# Altium footprint library FBGA-94-C.PcbLib: 1 footprints
Each footprint in its own frame and in the unit in brackets; x right, y up, seen from the top. Pads: shape width x height; smd on the part's side, far side on the other; paste and mask are expansions set on the pad; w line width, h text height; cw(c..) or ccw(c..) is an arc to the next point about the centre after c.
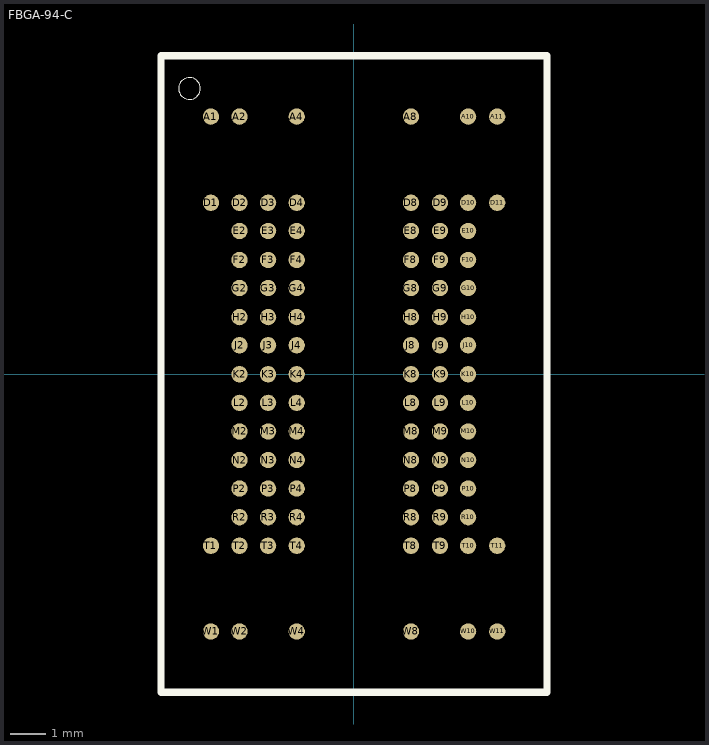
[diagram p0: the footprint, top view; thin cyan lines are the x and y axes]

## FBGA-94-C [mil]
pads (94):
  rrect100% 18x18 smd: A1(-157.48,284) A2(-125.98,284) A4(-62.99,284) A8(63,284) A10(126,284) A11(158,284) D1(-157.48,189) D2(-125.98,189) D3(-94.49,189) D4(-62.99,189) D8(63,189) D9(95,189) D10(126,189) D11(158,189) E2(-125.98,158) E3(-94.49,158) E4(-62.99,158) E8(63,158) E9(95,158) E10(126,158) F2(-125.98,126) F3(-94.49,126) F4(-62.99,126) F8(63,126) F9(95,126) F10(126,126) G2(-125.98,95) G3(-94.49,95) G4(-62.99,95) G8(63,95) G9(95,95) G10(126,95) H2(-125.98,63) H3(-94.49,63) H4(-62.99,63) H8(63,63) H9(95,63) H10(126,63) J2(-125.98,32) J3(-94.49,32) J4(-62.99,32) J8(63,32) J9(95,32) J10(126,32) K2(-125.98,0) K3(-94.49,0) K4(-62.99,0) K8(63,0) K9(95,0) K10(126,0) L2(-125.98,-31.5) L3(-94.49,-31.5) L4(-62.99,-31.5) L8(63,-31.5) L9(95,-31.5) L10(126,-31.5) M2(-125.98,-62.99) M3(-94.49,-62.99) M4(-62.99,-62.99) M8(63,-62.99) M9(95,-62.99) M10(126,-62.99) N2(-125.98,-94.49) N3(-94.49,-94.49) N4(-62.99,-94.49) N8(63,-94.49) N9(95,-94.49) N10(126,-94.49) P2(-125.98,-125.98) P3(-94.49,-125.98) P4(-62.99,-125.98) P8(63,-125.98) P9(95,-125.98) P10(126,-125.98) R2(-125.98,-157.48) R3(-94.49,-157.48) R4(-62.99,-157.48) R8(63,-157.48) R9(95,-157.48) R10(126,-157.48) T1(-157.48,-188.98) T2(-125.98,-188.98) T3(-94.49,-188.98) T4(-62.99,-188.98) T8(63,-188.98) T9(95,-188.98) T10(126,-188.98) T11(158,-188.98) W1(-157.48,-283.46) W2(-125.98,-283.46) W4(-62.99,-283.46) W8(63,-283.46) W10(126,-283.46) W11(158,-283.46)
Top Overlay:
  circle w0: c-181.1,315 r12
  lines w8: -212.6,-350.39 213,-350.39 213,351 -212.6,351 -212.6,-350.39
Top Solder:
  circle w0: c-157.48,284 r9
  circle w0: c-157.48,189 r9
  circle w0: c-157.48,-188.98 r9
  circle w0: c-157.48,-283.46 r9
  circle w0: c-125.98,284 r9
  circle w0: c-125.98,189 r9
  circle w0: c-125.98,158 r9
  circle w0: c-125.98,126 r9
  circle w0: c-125.98,95 r9
  circle w0: c-125.98,63 r9
  circle w0: c-125.98,32 r9
  circle w0: c-125.98,0 r9
  circle w0: c-125.98,-31.5 r9
  circle w0: c-125.98,-62.99 r9
  circle w0: c-125.98,-94.49 r9
  circle w0: c-125.98,-125.98 r9
  circle w0: c-125.98,-157.48 r9
  circle w0: c-125.98,-188.98 r9
  circle w0: c-125.98,-283.46 r9
  circle w0: c-94.49,189 r9
  circle w0: c-94.49,158 r9
  circle w0: c-94.49,126 r9
  circle w0: c-94.49,95 r9
  circle w0: c-94.49,63 r9
  circle w0: c-94.49,32 r9
  circle w0: c-94.49,0 r9
  circle w0: c-94.49,-31.5 r9
  circle w0: c-94.49,-62.99 r9
  circle w0: c-94.49,-94.49 r9
  circle w0: c-94.49,-125.98 r9
  circle w0: c-94.49,-157.48 r9
  circle w0: c-94.49,-188.98 r9
  circle w0: c-62.99,284 r9
  circle w0: c-62.99,189 r9
  circle w0: c-62.99,158 r9
  circle w0: c-62.99,126 r9
  circle w0: c-62.99,95 r9
  circle w0: c-62.99,63 r9
  circle w0: c-62.99,32 r9
  circle w0: c-62.99,0 r9
  circle w0: c-62.99,-31.5 r9
  circle w0: c-62.99,-62.99 r9
  circle w0: c-62.99,-94.49 r9
  circle w0: c-62.99,-125.98 r9
  circle w0: c-62.99,-157.48 r9
  circle w0: c-62.99,-188.98 r9
  circle w0: c-62.99,-283.46 r9
  circle w0: c63,284 r9
  circle w0: c63,189 r9
  circle w0: c63,158 r9
  circle w0: c63,126 r9
  circle w0: c63,95 r9
  circle w0: c63,63 r9
  circle w0: c63,32 r9
  circle w0: c63,0 r9
  circle w0: c63,-31.5 r9
  circle w0: c63,-62.99 r9
  circle w0: c63,-94.49 r9
  circle w0: c63,-125.98 r9
  circle w0: c63,-157.48 r9
  circle w0: c63,-188.98 r9
  circle w0: c63,-283.46 r9
  circle w0: c95,189 r9
  circle w0: c95,158 r9
  circle w0: c95,126 r9
  circle w0: c95,95 r9
  circle w0: c95,63 r9
  circle w0: c95,32 r9
  circle w0: c95,0 r9
  circle w0: c95,-31.5 r9
  circle w0: c95,-62.99 r9
  circle w0: c95,-94.49 r9
  circle w0: c95,-125.98 r9
  circle w0: c95,-157.48 r9
  circle w0: c95,-188.98 r9
  circle w0: c126,284 r9
  circle w0: c126,189 r9
  circle w0: c126,158 r9
  circle w0: c126,126 r9
  circle w0: c126,95 r9
  circle w0: c126,63 r9
  circle w0: c126,32 r9
  circle w0: c126,0 r9
  circle w0: c126,-31.5 r9
  circle w0: c126,-62.99 r9
  circle w0: c126,-94.49 r9
  circle w0: c126,-125.98 r9
  circle w0: c126,-157.48 r9
  circle w0: c126,-188.98 r9
  circle w0: c126,-283.46 r9
  circle w0: c158,284 r9
  circle w0: c158,189 r9
  circle w0: c158,-188.98 r9
  circle w0: c158,-283.46 r9